# Altium footprint library moya.PcbLib: 35 footprints (part 1 of 3)
Each footprint in its own frame and in the unit in brackets; x right, y up, seen from the top. Pads: shape width x height; smd on the part's side, far side on the other; paste and mask are expansions set on the pad; w line width, h text height; cw(c..) or ccw(c..) is an arc to the next point about the centre after c.
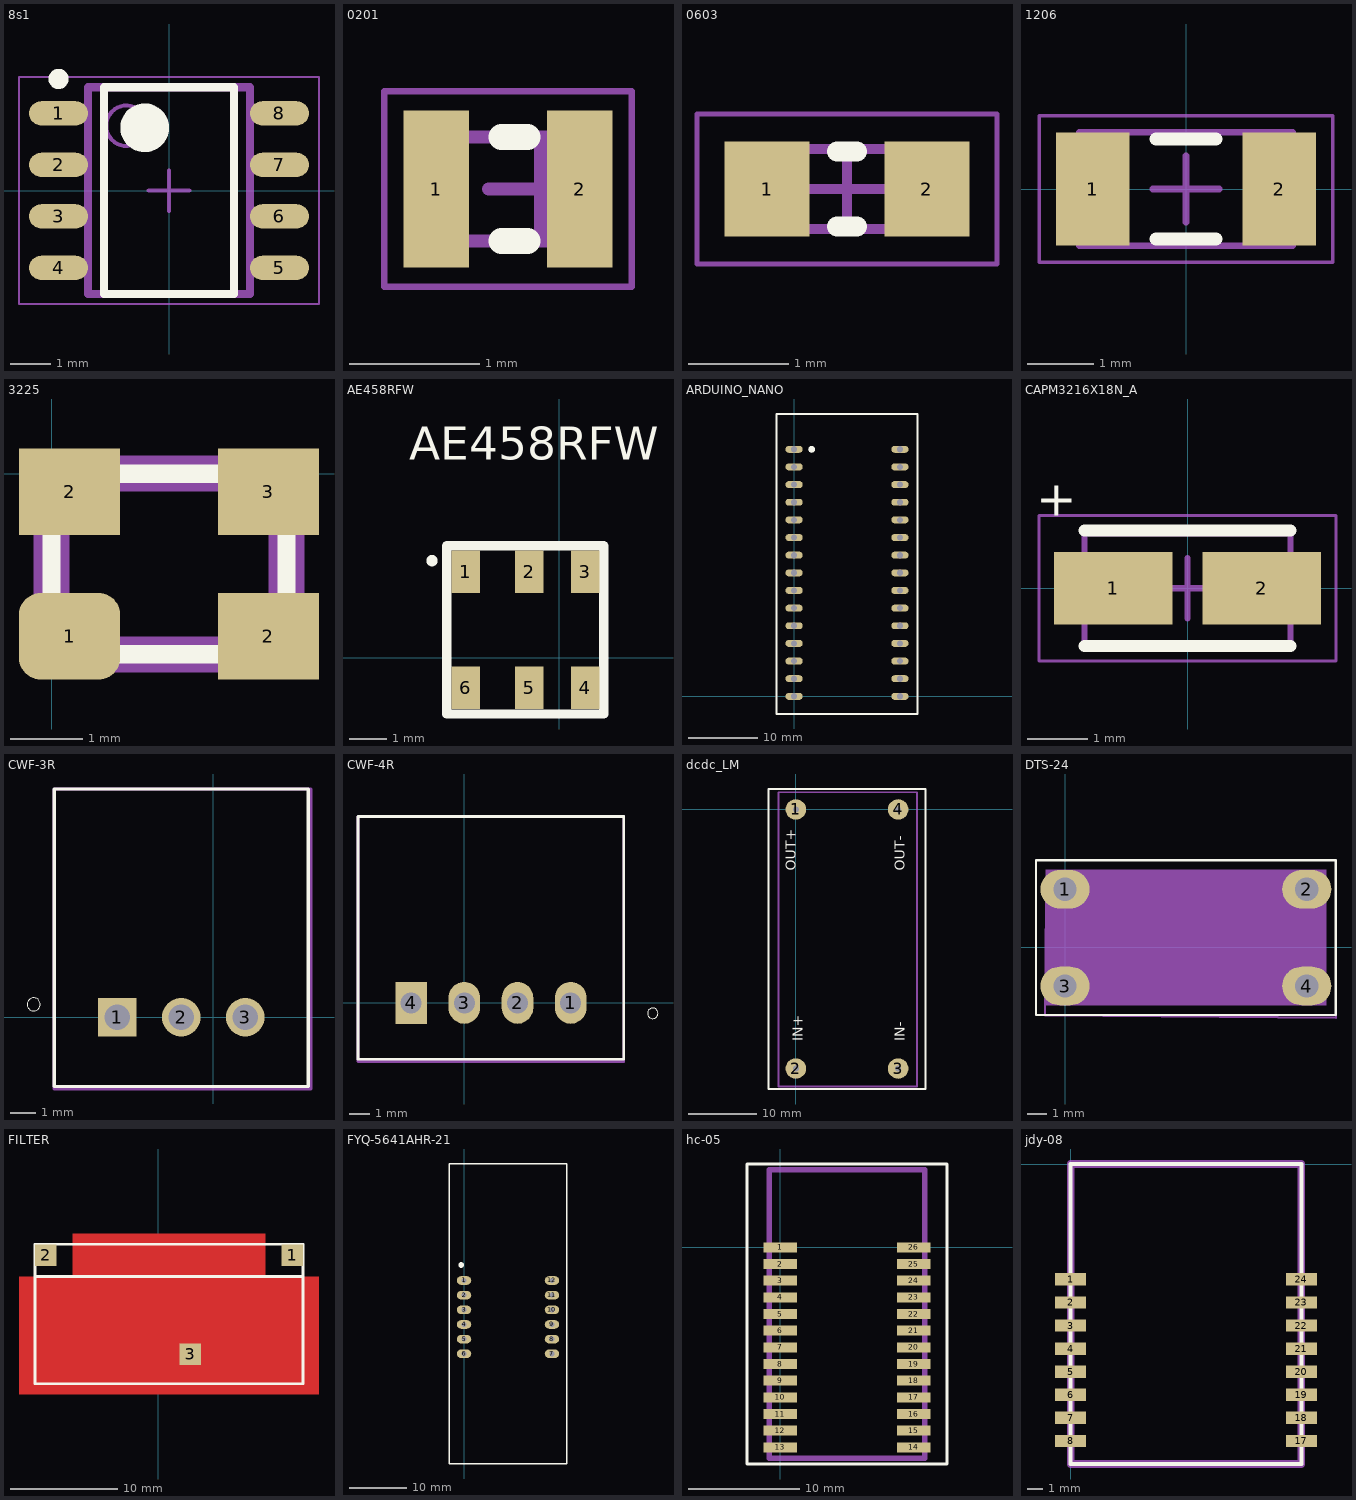
[diagram p0: the footprints below, top view; thin cyan lines are the x and y axes]

## 8s1 [mm] "SOIC, 8-Leads, Body 4.92x3.90mm, Pitch 1.27mm, IPC Medium Density"
height 1.35
pads (8):
  oval 1.45x0.6 smd: 1(-2.725,1.905) 2(-2.725,0.635) 3(-2.725,-0.635) 4(-2.725,-1.905) 5(2.725,-1.905) 6(2.725,-0.635) 7(2.725,0.635) 8(2.725,1.905)
Top Overlay:
  circle w0.6: c-0.6,1.55 r0.3
  circle w0.25: c-2.725,2.755 r0.125
  lines w0.2: -1.6,-2.55 1.6,-2.55 1.6,2.55 -1.6,2.55 -1.6,-2.55
Mechanical 13:
  circle w0.1: c-1.05,1.6 r0.5
  lines w0.2: -2,-2.55 2,-2.55 2,2.55 -2,2.55 -2,-2.55
Mechanical 15:
  lines w0.05: -3.7,-2.8 3.7,-2.8 3.7,2.8 -3.7,2.8 -3.7,-2.8
  lines w0.1: -0.5,0 0.5,0 ; 0,-0.5 0,0.5
3D body: height 1.75, standoff 1.35, extent -2,-2.55 2,2.55

## 0201 [mm]
height 0.8
pads (2):
  rect 0.5x1.2 smd: 1(-4,1.9) 2(-2.9,1.9)
Top Overlay:
  lines w0.2: -3.5,1.5 -3.3,1.5 ; -3.5,2.3 -3.3,2.3
Mechanical 13:
  lines w0.1: -4.05,1.5 -4.05,2.3 -2.9,2.3 -2.9,1.5 -4.05,1.5
Mechanical 15:
  lines w0.05: -4.4,1.15 -4.4,2.65 -2.5,2.65 -2.5,1.15 -4.4,1.15
  lines w0.1: -3.6,1.9 -2.8,1.9 ; -3.2,1.5 -3.2,2.3
3D body: height 0.8, standoff 0, extent -3.1,1.5 -2.7,2.3
3D body: height 0.8, standoff 0, extent -3.65,1.5 -3.1,2.3
3D body: height 0.8, standoff 0, extent -4,1.5 -3.65,2.3

## 0603 [mm]
height 0.8
pads (2):
  rect 0.85x0.95 smd: 1(-4,1.9) 2(-2.4,1.9)
Top Overlay:
  lines w0.2: -3.3,1.525 -3.1,1.525 ; -3.3,2.275 -3.1,2.275
Mechanical 13:
  lines w0.1: -4.05,1.5 -2.35,1.5 -2.35,2.3 -4.05,2.3 -4.05,1.5
Mechanical 15:
  lines w0.05: -4.7,1.15 -1.7,1.15 -1.7,2.65 -4.7,2.65 -4.7,1.15
  lines w0.1: -3.6,1.9 -2.8,1.9 ; -3.2,1.5 -3.2,2.3
3D body: height 0.8, standoff 0, extent -2.75,1.5 -2.35,2.3
3D body: height 0.8, standoff 0, extent -4.05,1.5 -3.65,2.3
3D body: height 0.8, standoff 0, extent -3.65,1.5 -2.75,2.3

## 1206 [mm] "Chip Resistor"
height 0.55
pads (2):
  rect 1.1x1.7 smd: 1(-1.4,0) 2(1.4,0)
Top Overlay:
  lines w0.2: -0.45,-0.75 0.45,-0.75 ; -0.45,0.75 0.45,0.75
Mechanical 13:
  lines w0.1: -1.6,-0.85 -1.6,0.85 1.6,0.85 1.6,-0.85 -1.6,-0.85
Mechanical 15:
  lines w0.05: -2.2,-1.1 -2.2,1.1 2.2,1.1 2.2,-1.1 -2.2,-1.1
  lines w0.1: -0.5,0 0.5,0 ; 0,-0.5 0,0.5
3D body: height 0.55, standoff 0, extent -1,-0.85 1,0.85
3D body: height 0.55, standoff 0, extent -1.6,-0.85 -1,0.85
3D body: height 0.55, standoff 0, extent 1,-0.85 1.6,0.85

## 3225 [mm]
pads (4):
  rrect50% 1.4x1.2 smd: 1(0.25,-2.25)
  rect 1.4x1.2 smd: 2(0.25,-0.25) 2(3,-2.25) 3(3,-0.25)
Top Overlay:
  lines w0.254: 0,-2.5 3.25,-2.5 3.25,0 0,0 0,-2.5
Mechanical 13:
  lines w0.5: 3.25,-2.5 0,-2.5 0,0 3.25,0 3.25,-2.25
3D body: height 0.7, standoff 0, extent 0.25,-2.5 3.25,0

## AE458RFW [mm] "DFN, 4-Leads, Body 3.80x3.80mm, Pitch 3.80mm, IPC Medium Density"
height 0.45
pads (6):
  rect 0.76x1.14 smd: 1(-2.5,2.3) 2(-0.8,2.3) 3(0.7,2.3) 4(0.7,-0.8) 5(-0.8,-0.8) 6(-2.5,-0.8)
Top Overlay:
  circle w0.2: c-3.4,2.6 r0.05
  lines w0.254: -3,-1.5 1.2,-1.5 ; -3,-1.45 -3,3 1.2,3 1.2,-1.45
  text "AE458RFW" at -4,5 h1.52
3D body: height 0.45, standoff 0, extent -2.8,-1.1 1,2.7

## ARDUINO_NANO [mm]
pads (31):
  oval 2.5x1 hole 0.9 unplated paste+0: 1(0,35.56) 2(0,33.02) 3(0,30.48) 4(0,27.94) 5(0,25.4) 6(0,22.86) 7(0,20.32) 8(0,17.78) 9(0,15.24) 10(0,12.7) 11(0,10.16) 12(0,7.62) 13(0,5.08) 14(0,2.54) 15(0,0) 16(15.24,0) 17(15.24,2.54) 18(15.24,5.08) 19(15.24,7.62) 20(15.24,10.16) 21(15.24,12.7) 22(15.24,15.24) 23(15.24,17.78) 24(15.24,20.32) 25(15.24,22.86) 26(15.24,25.4) 27(15.24,27.94) 28(15.24,30.48) 29(15.24,33.02) 30(15.24,35.56)
  round 1 on Top Overlay paste+0: 10(2.54,35.56)
Top Overlay:
  lines w0.254: -2.54,-2.54 -2.54,40.64 17.78,40.64 17.78,-2.54 -2.54,-2.54

## CAPM3216X18N_A [mm] "Molded Capacitor, 2-Leads, Body 3.20x1.60mm, IPC Medium Density"
height 1.8
pads (2):
  rect 1.95x1.2 smd: 1(-1.225,0) 2(1.225,0)
Top Overlay:
  lines w0.2: -1.7,-0.95 1.7,-0.95 ; -1.7,0.95 1.7,0.95
  text "+" at -2.5,1 h1
Mechanical 13:
  lines w0.1: -1.7,-0.9 -1.7,0.9 1.7,0.9 1.7,-0.9 -1.7,-0.9
Mechanical 15:
  lines w0.05: -2.45,-1.2 -2.45,1.2 2.45,1.2 2.45,-1.2 -2.45,-1.2
  lines w0.1: -0.5,0 0.5,0 ; 0,-0.5 0,0.5
3D body: height 1.8, standoff 0, extent -1.7,-0.9 1.7,0.9

## CWF-3R [mm]
pads (3):
  rect 1.508x1.508 hole 1: 1(-3.75,0)
  round 1.508 hole 1: 2(-1.25,0) 3(1.25,0)
Top Overlay:
  circle w0: c-7,0.5 r0.254
  lines w0.127: -6.2,-2.7 3.7,-2.7 3.7,8.9 -6.2,8.9 -6.2,-2.7
Mechanical 16:
  lines w0.127: -6.2,-2.8 3.8,-2.8 3.8,8.9 -6.2,8.9 -6.2,-2.8
3D body "User Library-DS1069-3 CWF-3R.STEP": height 5.75, standoff -3.5, extent -6.25,-2.62 3.75,8.88

## CWF-4R [mm]
pads (4):
  oval 1.508x2 hole 1: 1(5.08,0) 2(2.54,0) 3(0,0)
  rect 1.508x2 hole 1: 4(-2.54,0)
Top Overlay:
  circle w0: c9,-0.5 r0.25
  lines w0.127: -5.08,-2.7 -5.08,8.9 7.62,8.9 7.62,-2.7 -5.08,-2.7
Mechanical 16:
  lines w0.127: -5.08,-2.8 -5.08,8.9 7.62,8.9 7.62,-2.8 -5.08,-2.8
3D body "User Library-DS1069-4 MR TypeA.STEP": height 5.85, standoff -3.3, extent -5,-2.25 7.4,9.25

## dcdc_LM [mm]
pads (4):
  round 3 hole 0.9 unplated paste+0: 1(0,0) 2(0,-38) 3(15,-38) 4(15,0)
Top Overlay:
  lines w0.254: -4,-41 19,-41 19,3 -4,3 -4,-41
  text "IN+" at 1,-34 h1.52
  text "IN-" at 16,-34 h1.52
  text "OUT-" at 16,-9 h1.52
  text "OUT+" at 0,-9 h1.52
Mechanical 1:
  lines w0.254: -2.54,-40.64 -2.54,2.54 17.78,2.54 17.78,-40.64 -2.54,-40.64
3D body: height 14, standoff 0, extent -2.539,-40.639 17.779,2.539

## DTS-24 [mm]
pads (4):
  oval 2.54x2 hole 1.2: 1(0,3) 2(12.5,3) 3(0,-2) 4(12.5,-2)
Top Overlay:
  lines w0.127: -1.5,-3.5 -1.5,4.5 2.404,4.5 14,4.5 14,-3.5 -1.5,-3.5
Mechanical 4:
  lines w0.127: -0.983,2.461 -1.035,-3.51 14.009,-3.64 14.009,3.294
Mechanical 16:
  region: -1,4 13.5,4 13.5,-3 -1,-3
3D body "User Library-DTS24.STEP": height 11.31, standoff -3.96, extent -1.205,-6.151 13.4,6.849

## FILTER [mm]
height 0.8
pads (3):
  rect 2x2 smd: 1(12.5,24.5) 2(-10.5,24.5) 3(3,15.25)
Top Layer:
  rectangle: -13,11.5 -5.5,22.5
  rectangle: -8,11.5 10,26.5
  rectangle: 7.5,11.5 15,22.5
  lines w0.254: 3,15.25 4,14 3.5,14.5
Top Overlay:
  lines w0.254: -11.5,12.5 -11.5,22.5 13.5,22.5 13.5,12.5 ; -11.5,12.5 13.5,12.5 ; -11.5,12.5 13.5,12.5 ; -11.5,12.5 -11.5,25.5 13.5,25.5 13.5,12.5
3D body: height 8.8, standoff 0, extent -11.5,12.5 13.5,25.5

## FYQ-5641AHR-21 [mm]
pads (13):
  oval 2.5x1.5 hole 0.9 paste+0: 1(0,35.56) 2(0,33.02) 3(0,30.48) 4(0,27.94) 5(0,25.4) 6(0,22.86) 7(15.24,22.86) 8(15.24,25.4) 9(15.24,27.94) 10(15.24,30.48) 11(15.24,33.02) 12(15.24,35.56)
  round 1 on Top Overlay paste+0: 10(-0.5,38.25)
Top Overlay:
  lines w0.254: -2.54,3.75 -2.54,55.75 17.78,55.75 17.78,3.75 -2.54,3.75
3D body "User Library-5641_Red_jam.STEP": height 8.1, standoff -5.5, extent -1.75,4.05 17.25,54.45

## hc-05 [mm]
pads (26):
  rect 3x0.9 smd paste+0: 1(0,0) 2(0,-1.5) 3(0,-3) 4(0,-4.5) 5(0,-6) 6(0,-7.5) 7(0,-9) 8(0,-10.5) 9(0,-12) 10(0,-13.5) 11(0,-15) 12(0,-16.5) 13(0,-18) 14(12,-18) 15(12,-16.5) 16(12,-15) 17(12,-13.5) 18(12,-12) 19(12,-10.5) 20(12,-9) 21(12,-7.5) 22(12,-6) 23(12,-4.5) 24(12,-3) 25(12,-1.5) 26(12,0)
Top Overlay:
  lines w0.254: -3,-19.5 -3,7.5 15,7.5 15,-19.5 -3,-19.5
Mechanical 13:
  lines w0.5: 11,7 13,7 ; 13,7 -1,7 -1,-19 13,-19 13,6 13,7
3D body: height 3, standoff 0, extent -1.25,-19.25 13.25,7.25

## jdy-08 [mm]
pads (16):
  rect 2x0.8 smd: 1(0,-7.5) 2(0,-9) 3(0,-10.5) 4(0,-12) 5(0,-13.5) 6(0,-15) 7(0,-16.5) 8(0,-18) 17(15,-18) 18(15,-16.5) 19(15,-15) 20(15,-13.5) 21(15,-12) 22(15,-10.5) 23(15,-9) 24(15,-7.5)
Top Layer:
  text "1" at -1.2,-6.125 h1
Top Overlay:
  lines w0.254: 0,-19.5 15,-19.5 15,0 0,0 0,-19.5
Mechanical 13:
  lines w0.5: 14,0 15,0 ; 15,0 15,-2.5 15,-2.5 15,-19.5 0,-19.5 0,0 15,0
3D body: height 3, standoff 0, extent 0.25,-19 14.75,1